# Altium schematic symbol library SI2312BDS-T1-BE3.SchLib: 1 symbol
Pins are listed as number, name and electrical type; pins without a type are passive.

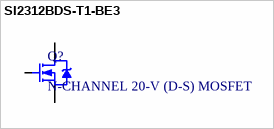
[diagram p0: symbol SI2312BDS-T1-BE3]

## SI2312BDS-T1-BE3
designator Q?, comment N-CHANNEL 20-V (D-S) MOSFET
N-Channel 20 V 3.9A (Ta) 750mW (Ta) Surface Mount SOT-23-3 (TO-236) /
footprint SOT23_NXP
pins: 1 GATE, 2 SOURCE, 3 DRAIN